# EAGLE library part *377 (library digital)
74xx377: Octal D flip-flop With clock enable
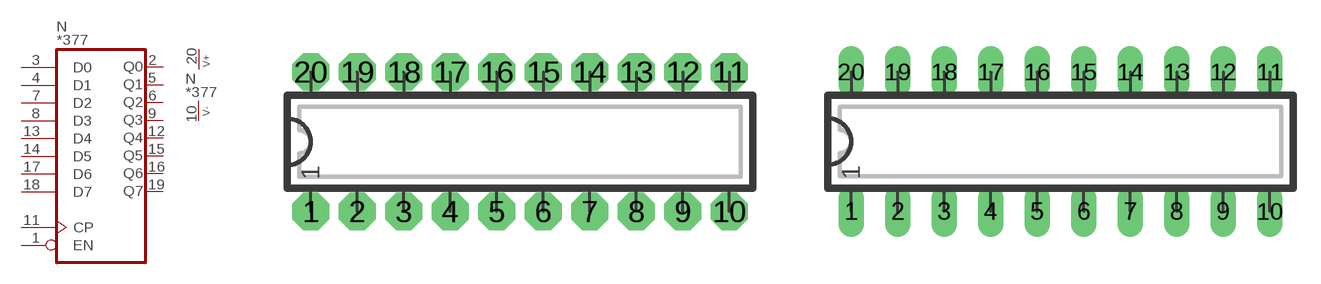
[diagram p10: symbol with the pads of DIP20N; footprints DIP20N, DIP20L]

Designator prefix N; gates  =DFF_2 P=V+-

## 74AC377N, 74ACT377N, 74HC377N, 74HCT377N  [DIP20N]
1   :EN  in
2   :Q0  out
3   :D0  in
4   :D1  in
5   :Q1  out
6   :Q2  out
7   :D2  in
8   :D3  in
9   :Q3  out
10  P:V-  pwr
11   :CP  in
12   :Q4  out
13   :D4  in
14   :D5  in
15   :Q5  out
16   :Q6  out
17   :D6  in
18   :D7  in
19   :Q7  out
20  P:V+  pwr

## 74AC377L, 74ACT377L, 74HC377L, 74HCT377L  [DIP20L]
Pads as for DIP20N

## 74AC377, 74ACT377, 74HC377, 74HCT377  [DIP20L]
Pads as for DIP20N

## 74AC377R, 74ACT377R, 74HC377R, 74HCT377R  [DIP20R]
Pads as for DIP20N

## 74HC377S, 74HCT377S  [SO20]
Pads as for DIP20N

## Footprint DIP20N (pad centres in mm)
DIP-20 Standard IC package, 20 pins
drill 0.813 pad 2.032 octagon: 1 0,0; 2 2.54,0; 3 5.08,0; 4 7.62,0; 5 10.16,0; 6 12.7,0; 7 15.24,0; 8 17.78,0; 9 20.32,0; 10 22.86,0; 11 22.86,7.62; 12 20.32,7.62; 13 17.78,7.62; 14 15.24,7.62; 15 12.7,7.62; 16 10.16,7.62; 17 7.62,7.62; 18 5.08,7.62; 19 2.54,7.62; 20 0,7.62

## Footprint DIP20L (pad centres in mm)
DIP-20, long pads Standard IC package, 20 pins
drill 0.813 pad 1.397 long: 1 0,0; 2 2.54,0; 3 5.08,0; 4 7.62,0; 5 10.16,0; 6 12.7,0; 7 15.24,0; 8 17.78,0; 9 20.32,0; 10 22.86,0; 11 22.86,7.62; 12 20.32,7.62; 13 17.78,7.62; 14 15.24,7.62; 15 12.7,7.62; 16 10.16,7.62; 17 7.62,7.62; 18 5.08,7.62; 19 2.54,7.62; 20 0,7.62

## Footprint DIP20R (pad centres in mm)
DIP-20, reduced pads Standard IC package, 20 pins
drill 0.813 pad 1.397 square: 1 0,0; 2 2.54,0; 3 5.08,0; 4 7.62,0; 5 10.16,0; 6 12.7,0; 7 15.24,0; 8 17.78,0; 9 20.32,0; 10 22.86,0; 11 22.86,7.62; 12 20.32,7.62; 13 17.78,7.62; 14 15.24,7.62; 15 12.7,7.62; 16 10.16,7.62; 17 7.62,7.62; 18 5.08,7.62; 19 2.54,7.62; 20 0,7.62

## Footprint SO20 (pad centres in mm)
SO-20, SMD SOIC IC package, 20 pins
smd 0.635 x 1.778: 1 -5.715,-2.857; 2 -4.445,-2.857; 3 -3.175,-2.857; 4 -1.905,-2.857; 5 -0.635,-2.857; 6 0.635,-2.857; 7 1.905,-2.857; 8 3.175,-2.857; 9 4.445,-2.857; 10 5.715,-2.857; 11 5.715,2.857; 12 4.445,2.857; 13 3.175,2.857; 14 1.905,2.857; 15 0.635,2.857; 16 -0.635,2.857; 17 -1.905,2.857; 18 -3.175,2.857; 19 -4.445,2.857; 20 -5.715,2.857